# Altium footprint library 8soic150.PcbLib: 1 footprints
Each footprint in its own frame and in the unit in brackets; x right, y up, seen from the top. Pads: shape width x height; smd on the part's side, far side on the other; paste and mask are expansions set on the pad; w line width, h text height; cw(c..) or ccw(c..) is an arc to the next point about the centre after c.
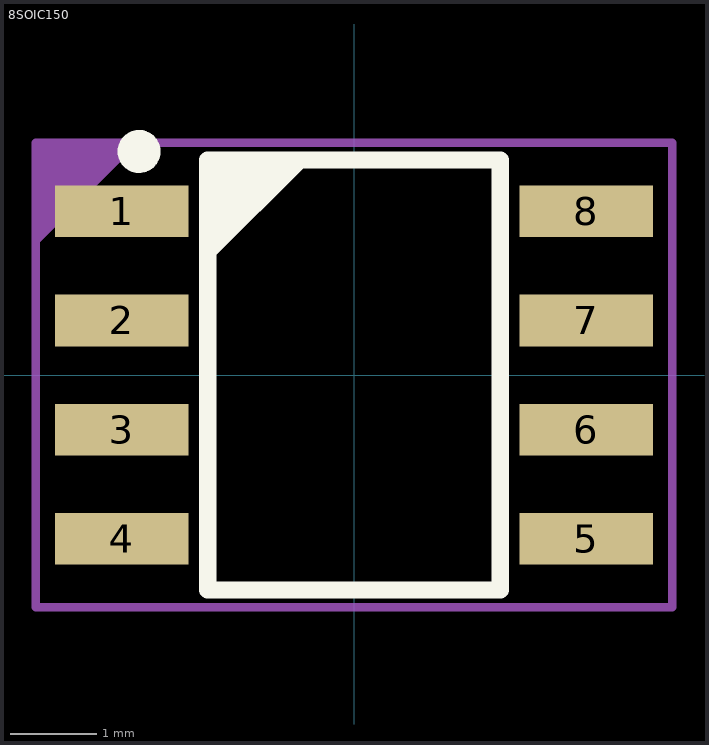
[diagram p0: the footprint, top view; thin cyan lines are the x and y axes]

## 8SOIC150 [mm] "SOIC, 8-Leads, Body 5.0x4.0mm (max), Pitch 1.27mm, IPC High Density"
height 2.35
pads (8):
  rect 1.55x0.6 smd: 1(-2.7,1.905) 2(-2.7,0.635) 3(-2.7,-0.635) 4(-2.7,-1.905) 5(2.7,-1.905) 6(2.7,-0.635) 7(2.7,0.635) 8(2.7,1.905)
Top Overlay:
  circle w0.25: c-2.5,2.6 r0.125
  region: -1.7,2.5 -0.5,2.5 -1.7,1.3
  lines w0.2: -1.7,-2.5 1.7,-2.5 1.7,2.5 -1.7,2.5 -1.7,-2.5
Top 3D Body:
  lines w0.1: -1.7,-2.5 1.7,-2.5 1.7,2.5 -1.7,2.5 -1.7,-2.5
Top Courtyard:
  region: -3.7,2.7 -2.5,2.7 -3.7,1.5
  lines w0.1: -3.7,-2.7 3.7,-2.7 3.7,2.7 -3.7,2.7 -3.7,-2.7
Top Designator (Mech17):
  text ".Designator" at -1.073,-0.204 h0.51
3D body "User Library-SOIC-8.STEP": height 1.75, standoff 0, extent -3.006,-2.5 3.006,2.5